# Altium footprint library CMJ2000_Footprint.PcbLib: 1 footprints
Each footprint in its own frame and in the unit in brackets; x right, y up, seen from the top. Pads: shape width x height; smd on the part's side, far side on the other; paste and mask are expansions set on the pad; w line width, h text height; cw(c..) or ccw(c..) is an arc to the next point about the centre after c.
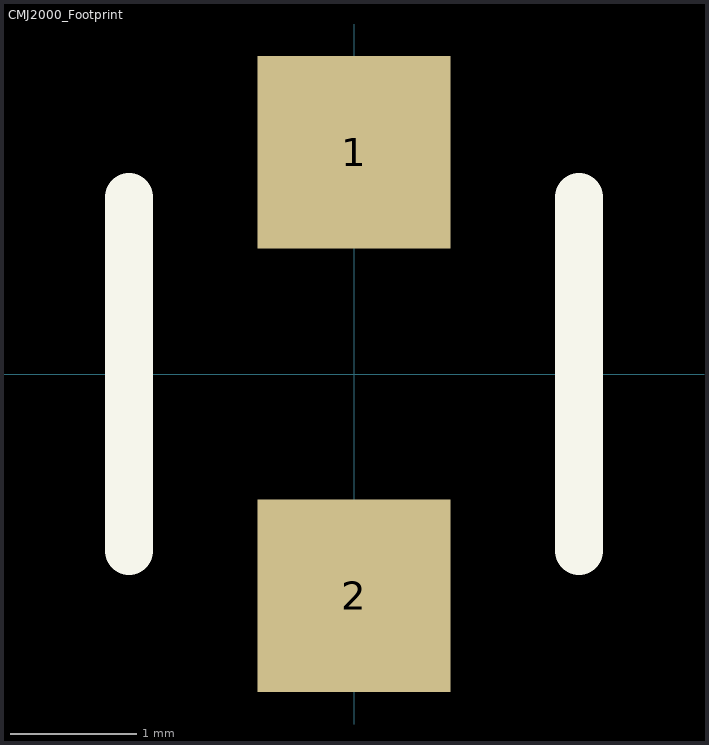
[diagram p0: the footprint, top view; thin cyan lines are the x and y axes]

## CMJ2000_Footprint [mil] "Constant Current Regulator"
pads (2):
  rect 60x60 smd: 1(0,69) 2(0,-69)
Top Overlay:
  lines w15: -70,-55 -70,55 ; 70,-55 70,55